# EAGLE library part LPC1788_87_78_74_72-144 (library lpc177x-lpc178x)
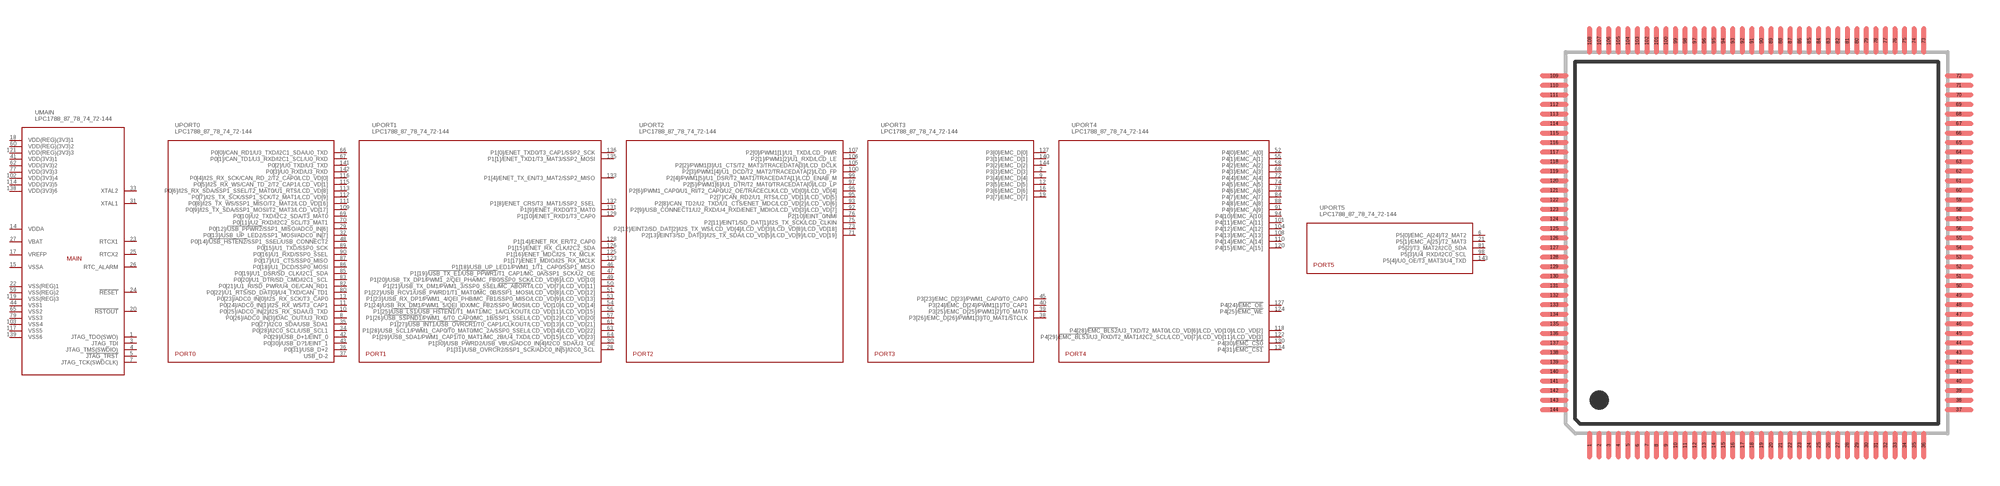
[diagram p1: symbol with the pads of LQFP144; footprint LQFP144]

Designator prefix -; gates PORT0=PORT0-208 PORT1=PORT1-144 PORT2=PORT2-144 PORT3=PORT3-144 PORT4=PORT4-144 PORT5=PORT5-208 MAIN=PWR-144

## LPC1788_87_78_74_72-144  [LQFP144]
1  MAIN:JTAG_TDO(SWO)
2  PORT3:P3[3]/EMC_D[3]
3  MAIN:JTAG_TDI
4  MAIN:JTAG_TMS(SWDIO)
5  MAIN:!JTAG_TRST!
6  PORT5:P5[0]/EMC_A[24]/T2_MAT2
7  MAIN:JTAG_TCK(SWDCLK)
8  PORT0:P0[26]/ADC0_IN[3]/DAC_OUT/U3_RXD
9  PORT3:P3[4]/EMC_D[4]
10  PORT0:P0[25]/ADC0_IN[2]/I2S_RX_SDA/U3_TXD
11  PORT0:P0[24]/ADC0_IN[1]/I2S_RX_WS/T3_CAP1
12  PORT3:P3[5]/EMC_D[5]
13  PORT0:P0[23]/ADC0_IN[0]/I2S_RX_SCK/T3_CAP0
14  MAIN:VDDA
15  MAIN:VSSA
16  PORT3:P3[6]/EMC_D[6]
17  MAIN:VREFP
18  MAIN:VDD(REG)(3V3)1
19  PORT3:P3[7]/EMC_D[7]
20  MAIN:!RSTOUT!
21  PORT5:P5[1]/EMC_A[25]/T2_MAT3
22  MAIN:VSS(REG)1
23  MAIN:RTCX1
24  MAIN:!RESET!
25  MAIN:RTCX2
26  MAIN:RTC_ALARM
27  MAIN:VBAT
28  PORT1:P1[31]/USB_OVRCR2/SSP1_SCK/ADC0_IN[5]/I2C0_SCL
29  PORT0:P0[12]/!USB_PPWR2!/SSP1_MISO/ADC0_IN[6]
30  PORT1:P1[30]/USB_PWRD2/USB_VBUS/ADC0_IN[4]/I2C0_SDA/U3_OE
31  MAIN:XTAL1
32  PORT0:P0[13]/USB_UP_LED2/SSP1_MOSI/ADC0_IN[7]
33  MAIN:XTAL2
34  PORT0:P0[28]/I2C0_SCL/USB_SCL1
35  PORT0:P0[27]/I2C0_SDA/USB_SDA1
36  PORT0:P0[31]/USB_D+2
37  PORT0:USB_D-2
38  PORT3:P3[26]/EMC_D[26]/PWM1[3]/T0_MAT1/STCLK
39  PORT3:P3[25]/EMC_D[25]/PWM1[2]/T0_MAT0
40  PORT3:P3[24]/EMC_D[24]/PWM1[1]/T0_CAP1
41  MAIN:VDD(3V3)1
42  PORT0:P0[29]/USB_D+1/EINT_0
43  PORT0:P0[30]/USB_D?1/EINT_1
44  MAIN:VSS1
45  PORT3:P3[23]/EMC_D[23]/PWM1_CAP0/T0_CAP0
46  PORT1:P1[18]/USB_UP_LED1/PWM1_1/T1_CAP0/SSP1_MISO
47  PORT1:P1[19]/!USB_TX_E1!/!USB_PPWR1!/T1_CAP1/MC_0A/SSP1_SCK/U2_OE
48  PORT0:P0[14]/!USB_HSTEN2!/SSP1_SSEL/USB_CONNECT2
49  PORT1:P1[20]/USB_TX_DP1/PWM1_2/QEI_PHA/MC_FB0/SSP0_SCK/LCD_VD[6]/LCD_VD[10]
50  PORT1:P1[21]/USB_TX_DM1/PWM1_3/SSP0_SSEL/!MC_ABORT!/LCD_VD[7]/LCD_VD[11]
51  PORT1:P1[22]/USB_RCV1/USB_PWRD1/T1_MAT0/MC_0B/SSP1_MOSI/LCD_VD[8]/LCD_VD[12]
52  PORT4:P4[0]/EMC_A[0]
53  PORT1:P1[23]/USB_RX_DP1/PWM1_4/QEI_PHB/MC_FB1/SSP0_MISO/LCD_VD[9]/LCD_VD[13]
54  PORT1:P1[24]/USB_RX_DM1/PWM1_5/QEI_IDX/MC_FB2/SSP0_MOSI/LCD_VD[10]/LCD_VD[14]
55  PORT4:P4[1]/EMC_A[1]
56  PORT1:P1[25]/!USB_LS1!/!USB_HSTEN1!/T1_MAT1/MC_1A/CLKOUT/LCD_VD[11]/LCD_VD[15]
57  PORT1:P1[26]/!USB_SSPND1!/PWM1_6/T0_CAP0/MC_1B/SSP1_SSEL/LCD_VD[12]/LCD_VD[20]
58  PORT4:P4[2]/EMC_A[2]
59  MAIN:VSS(REG)2
60  MAIN:VDD(REG)(3V3)2
61  PORT1:P1[27]/!USB_INT1!/!USB_OVRCR1!/T0_CAP1/CLKOUT/LCD_VD[13]/LCD_VD[21]
62  MAIN:VDD(3V3)2
63  PORT1:P1[28]/USB_SCL1/PWM1_CAP0/T0_MAT0/MC_2A/SSP0_SSEL/LCD_VD[14]/LCD_VD[22]
64  PORT1:P1[29]/USB_SDA1/PWM1_CAP1/T0_MAT1/MC_2B/U4_TXD/LCD_VD[15]/LCD_VD[23]
65  MAIN:VSS2
66  PORT0:P0[0]/CAN_RD1/U3_TXD/I2C1_SDA/U0_TXD
67  PORT0:P0[1]/CAN_TD1/U3_RXD/I2C1_SCL/U0_RXD
68  PORT4:P4[3]/EMC_A[3]
69  PORT0:P0[10]/U2_TXD/I2C2_SDA/T3_MAT0
70  PORT0:P0[11]/U2_RXD/I2C2_SCL/T3_MAT1
71  PORT2:P2[13]/EINT3/SD_DAT[3]/I2S_TX_SDA/LCD_VD[5]/LCD_VD[9]/LCD_VD[19]
72  PORT4:P4[4]/EMC_A[4]
73  PORT2:P2[12]/EINT2/SD_DAT[2]/I2S_TX_WS/LCD_VD[4]/LCD_VD[3]/LCD_VD[8]/LCD_VD[18]
74  PORT4:P4[5]/EMC_A[5]
75  PORT2:P2[11]/EINT1/SD_DAT[1]/I2S_TX_SCK/LCD_CLKIN
76  PORT2:P2[10]/EINT_0/NMI
77  MAIN:VDD(3V3)3
78  PORT4:P4[6]/EMC_A[6]
79  MAIN:VSS3
80  PORT0:P0[22]/U1_RTS/SD_DAT[0]/U4_TXD/CAN_TD1
81  PORT5:P5[2]/T3_MAT2/I2C0_SDA
82  PORT0:P0[21]/U1_RI/SD_PWR/U4_OE/CAN_RD1
83  PORT0:P0[20]/U1_DTR/SD_CMD/I2C1_SCL
84  PORT4:P4[7]/EMC_A[7]
85  PORT0:P0[19]/U1_DSR/SD_CLK/I2C1_SDA
86  PORT0:P0[18]/U1_DCD/SSP0_MOSI
87  PORT0:P0[17]/U1_CTS/SSP0_MISO
88  PORT4:P4[8]/EMC_A[8]
89  PORT0:P0[15]/U1_TXD/SSP0_SCK
90  PORT0:P0[16]/U1_RXD/SSP0_SSEL
91  PORT4:P4[9]/EMC_A[9]
92  PORT2:P2[9]/USB_CONNECT1/U2_RXD/U4_RXD/ENET_MDIO/LCD_VD[3]/LCD_VD[7]
93  PORT2:P2[8]/CAN_TD2/U2_TXD/U1_CTS/ENET_MDC/LCD_VD[2]/LCD_VD[6]
94  PORT4:P4[10]/EMC_A[10]
95  PORT2:P2[7]/CAN_RD2/U1_RTS/LCD_VD[1]/LCD_VD[5]
96  PORT2:P2[6]/PWM1_CAP0/U1_RI/T2_CAP0/U2_OE/TRACECLK/LCD_VD[0]/LCD_VD[4]
97  PORT2:P2[5]/PWM1[6]/U1_DTR/T2_MAT0/TRACEDATA[0]/LCD_LP
98  PORT5:P5[3]/U4_RXD/I2C0_SCL
99  PORT2:P2[4]/PWM1[5]/U1_DSR/T2_MAT1/TRACEDATA[1]/LCD_ENAB_M
100  PORT2:P2[3]/PWM1[4]/U1_DCD/T2_MAT2/TRACEDATA[2]/LCD_FP
101  PORT4:P4[11]/EMC_A[11]
102  MAIN:VDD(3V3)4
103  MAIN:VSS4
104  PORT4:P4[12]/EMC_A[12]
105  PORT2:P2[2]/PWM1[3]/U1_CTS/T2_MAT3/TRACEDATA[3]/LCD_DCLK
106  PORT2:P2[1]/PWM1[2]/U1_RXD/LCD_LE
107  PORT2:P2[0]/PWM1[1]/U1_TXD/LCD_PWR
108  PORT4:P4[13]/EMC_A[13]
109  PORT0:P0[9]/I2S_TX_SDA/SSP1_MOSI/T2_MAT3/LCD_VD[17]
110  PORT4:P4[14]/EMC_A[14]
111  PORT0:P0[8]/I2S_TX_WS/SSP1_MISO/T2_MAT2/LCD_VD[16]
112  PORT0:P0[7]/I2S_TX_SCK/SSP1_SCK/T2_MAT1/LCD_VD[9]
113  PORT0:P0[6]/I2S_RX_SDA/SSP1_SSEL/T2_MAT0/U1_RTS/LCD_VD[8]
114  MAIN:VDD(3V3)5
115  PORT0:P0[5]/I2S_RX_WS/CAN_TD_2/T2_CAP1/LCD_VD[1]
116  PORT0:P0[4]/I2S_RX_SCK/CAN_RD_2/T2_CAP0/LCD_VD[0]
117  MAIN:VSS5
118  PORT4:P4[28]/!EMC_BLS2!/U3_TXD/T2_MAT0/LCD_VD[6]/LCD_VD[10]/LCD_VD[2]
119  MAIN:VSS(REG)3
120  PORT4:P4[15]/EMC_A[15]
121  MAIN:VDD(REG)(3V3)3
122  PORT4:P4[29]/!EMC_BLS3!/U3_RXD/T2_MAT1/I2C2_SCL/LCD_VD[7]/LCD_VD[11]/LCD_VD[3]
123  PORT1:P1[17]/ENET_MDIO/I2S_RX_MCLK
124  PORT4:P4[25]/!EMC_WE!
125  PORT1:P1[16]/ENET_MDC/I2S_TX_MCLK
126  PORT1:P1[15]/ENET_RX_CLK/I2C2_SDA
127  PORT4:P4[24]/!EMC_OE!
128  PORT1:P1[14]/ENET_RX_ER/T2_CAP0
129  PORT1:P1[10]/ENET_RXD1/T3_CAP0
130  PORT4:P4[30]/!EMC_CS0!
131  PORT1:P1[9]/ENET_RXD0/T3_MAT0
132  PORT1:P1[8]/ENET_CRS/T3_MAT1/SSP2_SSEL
133  PORT1:P1[4]/ENET_TX_EN/T3_MAT2/SSP2_MISO
134  PORT4:P4[31]/!EMC_CS1!
135  PORT1:P1[1]/ENET_TXD1/T3_MAT3/SSP2_MOSI
136  PORT1:P1[0]/ENET_TXD0/T3_CAP1/SSP2_SCK
137  PORT3:P3[0]/EMC_D[0]
138  MAIN:VDD(3V3)6
139  MAIN:VSS6
140  PORT3:P3[1]/EMC_D[1]
141  PORT0:P0[2]/U0_TXD/U3_TXD
142  PORT0:P0[3]/U0_RXD/U3_RXD
143  PORT5:P5[4]/U0_OE/T3_MAT3/U4_TXD
144  PORT3:P3[2]/EMC_D[2]

## Footprint LQFP144 (pad centres in mm)
smd 0.25 x 1.5: 1 -8.59,-10.41; 2 -8.09,-10.41; 3 -7.59,-10.41; 4 -7.09,-10.41; 5 -6.59,-10.41; 6 -6.09,-10.41; 7 -5.59,-10.41; 8 -5.09,-10.41; 9 -4.59,-10.41; 10 -4.09,-10.41; 11 -3.59,-10.41; 12 -3.09,-10.41; 13 -2.59,-10.41; 14 -2.09,-10.41; 15 -1.59,-10.41; 16 -1.09,-10.41; 17 -0.59,-10.41; 18 -0.09,-10.41; 19 0.41,-10.41; 20 0.91,-10.41; 21 1.41,-10.41; 22 1.91,-10.41; 23 2.41,-10.41; 24 2.91,-10.41; 25 3.41,-10.41; 26 3.91,-10.41; 27 4.41,-10.41; 28 4.91,-10.41; 29 5.41,-10.41; 30 5.91,-10.41; 31 6.41,-10.41; 32 6.91,-10.41; 33 7.41,-10.41; 34 7.91,-10.41; 35 8.41,-10.41; 36 8.91,-10.41; 73 8.91,10.79; 74 8.41,10.79; 75 7.91,10.79; 76 7.41,10.79; 77 6.91,10.79; 78 6.41,10.79; 79 5.91,10.79; 80 5.41,10.79; 81 4.91,10.79; 82 4.41,10.79; 83 3.91,10.79; 84 3.41,10.79; 85 2.91,10.79; 86 2.41,10.79; 87 1.91,10.79; 88 1.41,10.79; 89 0.91,10.79; 90 0.41,10.79; 91 -0.09,10.79; 92 -0.59,10.79; 93 -1.09,10.79; 94 -1.59,10.79; 95 -2.09,10.79; 96 -2.59,10.79; 97 -3.09,10.79; 98 -3.59,10.79; 99 -4.09,10.79; 100 -4.59,10.79; 101 -5.09,10.79; 102 -5.59,10.79; 103 -6.09,10.79; 104 -6.59,10.79; 105 -7.09,10.79; 106 -7.59,10.79; 107 -8.09,10.79; 108 -8.59,10.79
smd 1.5 x 0.25: 37 10.76,-8.56; 38 10.76,-8.06; 39 10.76,-7.56; 40 10.76,-7.06; 41 10.76,-6.56; 42 10.76,-6.06; 43 10.76,-5.56; 44 10.76,-5.06; 45 10.76,-4.56; 46 10.76,-4.06; 47 10.76,-3.56; 48 10.76,-3.06; 49 10.76,-2.56; 50 10.76,-2.06; 51 10.76,-1.56; 52 10.76,-1.06; 53 10.76,-0.56; 54 10.76,-0.06; 55 10.76,0.44; 56 10.76,0.94; 57 10.76,1.44; 58 10.76,1.94; 59 10.76,2.44; 60 10.76,2.94; 61 10.76,3.44; 62 10.76,3.94; 63 10.76,4.44; 64 10.76,4.94; 65 10.76,5.44; 66 10.76,5.94; 67 10.76,6.44; 68 10.76,6.94; 69 10.76,7.44; 70 10.76,7.94; 71 10.76,8.44; 72 10.76,8.94; 109 -10.44,8.94; 110 -10.44,8.44; 111 -10.44,7.94; 112 -10.44,7.44; 113 -10.44,6.94; 114 -10.44,6.44; 115 -10.44,5.94; 116 -10.44,5.44; 117 -10.44,4.94; 118 -10.44,4.44; 119 -10.44,3.94; 120 -10.44,3.44; 121 -10.44,2.94; 122 -10.44,2.44; 123 -10.44,1.94; 124 -10.44,1.44; 125 -10.44,0.94; 126 -10.44,0.44; 127 -10.44,-0.06; 128 -10.44,-0.56; 129 -10.44,-1.06; 130 -10.44,-1.56; 131 -10.44,-2.06; 132 -10.44,-2.56; 133 -10.44,-3.06; 134 -10.44,-3.56; 135 -10.44,-4.06; 136 -10.44,-4.56; 137 -10.44,-5.06; 138 -10.44,-5.56; 139 -10.44,-6.06; 140 -10.44,-6.56; 141 -10.44,-7.06; 142 -10.44,-7.56; 143 -10.44,-8.06; 144 -10.44,-8.56